# Altium schematic symbol library MOSFET_GDS_TEMPLATE.SchLib: 1 symbol
Pins are listed as number, name and electrical type; pins without a type are passive.

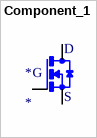
[diagram p0: symbol Component_1]

## Component_1
designator *
pins: 1 S, 2 S, 3 S, 4 G, 5 D